# Altium integrated library SR5100.IntLib: 1 symbol
Pins are listed as number, name and electrical type; pins without a type are passive.

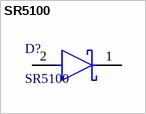
[diagram p0: symbol SR5100]

## SR5100
designator D?
footprint SR5100(DO-201AD
pins: 1 C, 2 A